# Altium footprint library 2019-03-18_22-03-14.PcbLib: 3 footprints
Each footprint in its own frame and in the unit in brackets; x right, y up, seen from the top. Pads: shape width x height; smd on the part's side, far side on the other; paste and mask are expansions set on the pad; w line width, h text height; cw(c..) or ccw(c..) is an arc to the next point about the centre after c.
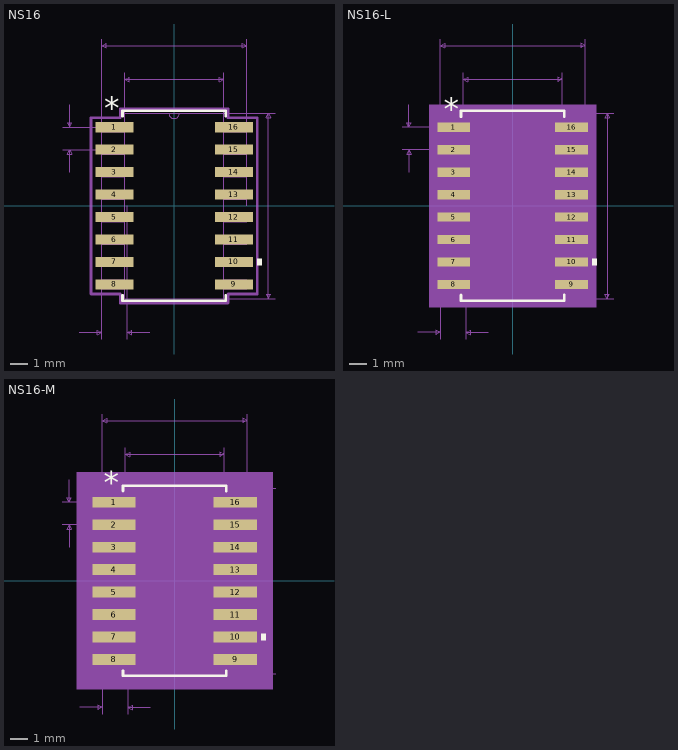
[diagram p0: the footprints below, top view; thin cyan lines are the x and y axes]

## NS16 [mil]
pads (16):
  rect 84.56x22.36 smd paste+0 mask+0: 1(-133,175) 2(-133,125) 3(-133,75) 4(-133,25) 5(-133,-25) 6(-133,-75) 7(-133,-125) 8(-133,-175) 9(133,-175) 10(133,-125) 11(133,-75) 12(133,-25) 13(133,25) 14(133,75) 15(133,125) 16(133,175)
Top Overlay:
  region: 185.28,-117.5 195.28,-117.5 195.28,-132.5 185.28,-132.5
  lines w6: -115,-199.28 -115,-211.5 115,-211.5 115,-199.28 ; -115,199.28 -115,211.5 115,211.5 115,199.28
  text "*" at -155.5,192.36 h50
Mechanical 7:
  lines w1: -248,125 -133,125 ; -248,175 -133,175 ; -233,75 -233,125 ; -233,225 -233,175 ; -211.5,-281.5 -161.5,-281.5 ; -161.5,-296.5 -161.5,0 -161.5,371.5 ; -110,0 -110,296.5 ; -104.5,-296.5 -104.5,0 ; -54.5,-281.5 -104.5,-281.5 ; 0,-206.5 225,-206.5 ; 0,206.5 225,206.5 ; 110,0 110,296.5 ; 161.5,0 161.5,371.5 ; -233,125 -228,115 -238,115 -233,125 ; -233,175 -228,185 -238,185 -233,175 ; -161.5,-281.5 -171.5,-286.5 -171.5,-276.5 -161.5,-281.5 ; -161.5,356.5 -151.5,351.5 -151.5,361.5 -161.5,356.5 ; -161.5,356.5 161.5,356.5 ; -110,281.5 -100,276.5 -100,286.5 -110,281.5 ; -110,281.5 110,281.5 ; -104.5,-281.5 -94.5,-286.5 -94.5,-276.5 -104.5,-281.5 ; 110,281.5 100,276.5 100,286.5 110,281.5 ; 161.5,356.5 151.5,351.5 151.5,361.5 161.5,356.5 ; 210,-206.5 215,-196.5 205,-196.5 210,-206.5 ; 210,-206.5 210,206.5 ; 210,206.5 215,196.5 205,196.5 210,206.5
  text "0.041in/1.041mm" at -226.75,-326.5 h25
  text "0.05in/1.27mm" at -415.5,137.5 h25
  text "0.413in/10.49mm" at 230,-12.5 h25
  text "0.323in/8.204mm" at -93.75,376.5 h25
  text "0.22in/5.588mm" at -87.5,301.5 h25
  text "Alt 2 Padstyle: b229_152h76" at -337.5,-706.5 h50
  text "Alt 1 Padstyle: b152_229h76" at -337.5,-646.5 h50
  text "Pin One Padstyle: r215_57" at -312.5,-466.5 h50
  text "Default Padstyle: r215_57" at -312.5,-406.5 h50
Mechanical 13:
  lines w0: -12,206.5 ccw(c0,206.5) 12,206.5
  lines w1: -161.5,-185 -110,-185 -110,-165 -161.5,-165 -161.5,-185 ; -161.5,-135 -110,-135 -110,-115 -161.5,-115 -161.5,-135 ; -161.5,-85 -110,-85 -110,-65 -161.5,-65 -161.5,-85 ; -161.5,-35 -110,-35 -110,-15 -161.5,-15 -161.5,-35 ; -161.5,15 -110,15 -110,35 -161.5,35 -161.5,15 ; -161.5,65 -110,65 -110,85 -161.5,85 -161.5,65 ; -161.5,115 -110,115 -110,135 -161.5,135 -161.5,115 ; -161.5,165 -110,165 -110,185 -161.5,185 -161.5,165 ; -110,-206.5 -110,206.5 110,206.5 110,-206.5 -110,-206.5 ; 110,-185 161.5,-185 161.5,-165 110,-165 110,-185 ; 110,-135 161.5,-135 161.5,-115 110,-115 110,-135 ; 110,-85 161.5,-85 161.5,-65 110,-65 110,-85 ; 110,-35 161.5,-35 161.5,-15 110,-15 110,-35 ; 110,15 161.5,15 161.5,35 110,35 110,15 ; 110,65 161.5,65 161.5,85 110,85 110,65 ; 110,115 161.5,115 161.5,135 110,135 110,115 ; 110,165 161.5,165 161.5,185 110,185 110,165
  text "*" at -107.5,153.5 h50
Mechanical 15:
  lines w6: -185.28,-196.18 -120,-196.18 -120,-216.5 120,-216.5 120,-196.18 185.28,-196.18 185.28,196.18 120,196.18 120,216.5 -120,216.5 -120,196.18 -185.28,196.18 -185.28,-196.18
3D body: height 10, standoff 0, extent 0,0 10,10

## NS16-L [mil]
pads (16):
  rect 72.75x20.79 smd paste+0 mask+0: 1(-131.03,175) 2(-131.03,125) 3(-131.03,75) 4(-131.03,25) 5(-131.03,-25) 6(-131.03,-75) 7(-131.03,-125) 8(-131.03,-175) 9(131.03,-175) 10(131.03,-125) 11(131.03,-75) 12(131.03,-25) 13(131.03,25) 14(131.03,75) 15(131.03,125) 16(131.03,175)
Top Overlay:
  region: 177.41,-117.5 187.41,-117.5 187.41,-132.5 177.41,-132.5
  lines w6: -115,-198.49 -115,-211.5 115,-211.5 115,-198.49 ; -115,198.49 -115,211.5 115,211.5 115,198.49
  text "*" at -153.53,190.79 h50
Mechanical 5:
  region: 186.41,-225.5 -186.41,-225.5 -186.41,225.5 186.41,225.5
Mechanical 7:
  lines w1: -246.03,125 -131.03,125 ; -246.03,175 -131.03,175 ; -231.03,75 -231.03,125 ; -231.03,225 -231.03,175 ; -211.5,-281.5 -161.5,-281.5 ; -161.5,-296.5 -161.5,0 -161.5,371.5 ; -110,0 -110,296.5 ; -104.5,-296.5 -104.5,0 ; -54.5,-281.5 -104.5,-281.5 ; 0,-206.5 225,-206.5 ; 0,206.5 225,206.5 ; 110,0 110,296.5 ; 161.5,0 161.5,371.5 ; -231.03,125 -236.03,115 -226.03,115 -231.03,125 ; -231.03,175 -236.03,185 -226.03,185 -231.03,175 ; -161.5,-281.5 -171.5,-276.5 -171.5,-286.5 -161.5,-281.5 ; -161.5,356.5 161.5,356.5 ; -161.5,356.5 -151.5,361.5 -151.5,351.5 -161.5,356.5 ; -110,281.5 110,281.5 ; -110,281.5 -100,286.5 -100,276.5 -110,281.5 ; -104.5,-281.5 -94.5,-276.5 -94.5,-286.5 -104.5,-281.5 ; 110,281.5 100,286.5 100,276.5 110,281.5 ; 161.5,356.5 151.5,361.5 151.5,351.5 161.5,356.5 ; 210,-206.5 210,206.5 ; 210,-206.5 205,-196.5 215,-196.5 210,-206.5 ; 210,206.5 205,196.5 215,196.5 210,206.5
  text "Default Padstyle: r185_53" at -312.5,-406.5 h50
  text "Pin One Padstyle: r185_53" at -312.5,-466.5 h50
  text "Alt 1 Padstyle: b152_229h76" at -337.5,-646.5 h50
  text "Alt 2 Padstyle: b229_152h76" at -337.5,-706.5 h50
  text "0.22in/5.588mm" at -87.5,301.5 h25
  text "0.323in/8.204mm" at -93.75,376.5 h25
  text "0.413in/10.49mm" at 230,-12.5 h25
  text "0.05in/1.27mm" at -413.53,137.5 h25
  text "0.041in/1.041mm" at -226.75,-326.5 h25
Mechanical 13:
  lines w0: -12,206.5 ccw(c0,206.5) 12,206.5
  lines w1: -161.5,-185 -161.5,-165 -110,-165 -110,-185 -161.5,-185 ; -161.5,-135 -161.5,-115 -110,-115 -110,-135 -161.5,-135 ; -161.5,-85 -161.5,-65 -110,-65 -110,-85 -161.5,-85 ; -161.5,-35 -161.5,-15 -110,-15 -110,-35 -161.5,-35 ; -161.5,15 -161.5,35 -110,35 -110,15 -161.5,15 ; -161.5,65 -161.5,85 -110,85 -110,65 -161.5,65 ; -161.5,115 -161.5,135 -110,135 -110,115 -161.5,115 ; -161.5,165 -161.5,185 -110,185 -110,165 -161.5,165 ; -110,-206.5 110,-206.5 110,206.5 -110,206.5 -110,-206.5 ; 110,-185 110,-165 161.5,-165 161.5,-185 110,-185 ; 110,-135 110,-115 161.5,-115 161.5,-135 110,-135 ; 110,-85 110,-65 161.5,-65 161.5,-85 110,-85 ; 110,-35 110,-15 161.5,-15 161.5,-35 110,-35 ; 110,15 110,35 161.5,35 161.5,15 110,15 ; 110,65 110,85 161.5,85 161.5,65 110,65 ; 110,115 110,135 161.5,135 161.5,115 110,115 ; 110,165 110,185 161.5,185 161.5,165 110,165
  text "*" at -107.5,153.5 h50
Mechanical 15:
  region: -114,-189.39 -171.41,-189.39 -171.41,189.39 -114,189.39 -114,210.5 114,210.5 114,189.39 171.41,189.39 171.41,-189.39 114,-189.39 114,-210.5 -114,-210.5
  lines w6: -171.41,-189.39 -171.41,189.39 -114,189.39 -114,210.5 114,210.5 114,189.39 171.41,189.39 171.41,-189.39 114,-189.39 114,-210.5 -114,-210.5 -114,-189.39 -171.41,-189.39
3D body: height 10, standoff 0, extent 0,0 10,10

## NS16-M [mil]
pads (16):
  rect 96.37x23.94 smd paste+0 mask+0: 1(-134.97,175) 2(-134.97,125) 3(-134.97,75) 4(-134.97,25) 5(-134.97,-25) 6(-134.97,-75) 7(-134.97,-125) 8(-134.97,-175) 9(134.97,-175) 10(134.97,-125) 11(134.97,-75) 12(134.97,-25) 13(134.97,25) 14(134.97,75) 15(134.97,125) 16(134.97,175)
Top Overlay:
  region: 193.15,-117.5 203.15,-117.5 203.15,-132.5 193.15,-132.5
  lines w6: -115,-200.07 -115,-211.5 115,-211.5 115,-200.07 ; -115,200.07 -115,211.5 115,211.5 115,200.07
  text "*" at -157.47,193.94 h50
Mechanical 5:
  region: 218.15,-241.5 -218.15,-241.5 -218.15,241.5 218.15,241.5
Mechanical 7:
  lines w1: -249.97,125 -134.97,125 ; -249.97,175 -134.97,175 ; -234.97,75 -234.97,125 ; -234.97,225 -234.97,175 ; -211.5,-281.5 -161.5,-281.5 ; -161.5,-296.5 -161.5,0 -161.5,371.5 ; -110,0 -110,296.5 ; -104.5,-296.5 -104.5,0 ; -54.5,-281.5 -104.5,-281.5 ; 0,-206.5 225,-206.5 ; 0,206.5 225,206.5 ; 110,0 110,296.5 ; 161.5,0 161.5,371.5 ; -234.97,125 -239.97,115 -229.97,115 -234.97,125 ; -234.97,175 -239.97,185 -229.97,185 -234.97,175 ; -161.5,-281.5 -171.5,-276.5 -171.5,-286.5 -161.5,-281.5 ; -161.5,356.5 161.5,356.5 ; -161.5,356.5 -151.5,361.5 -151.5,351.5 -161.5,356.5 ; -110,281.5 110,281.5 ; -110,281.5 -100,286.5 -100,276.5 -110,281.5 ; -104.5,-281.5 -94.5,-276.5 -94.5,-286.5 -104.5,-281.5 ; 110,281.5 100,286.5 100,276.5 110,281.5 ; 161.5,356.5 151.5,361.5 151.5,351.5 161.5,356.5 ; 210,-206.5 210,206.5 ; 210,-206.5 205,-196.5 215,-196.5 210,-206.5 ; 210,206.5 205,196.5 215,196.5 210,206.5
  text "Default Padstyle: r245_61" at -312.5,-406.5 h50
  text "Pin One Padstyle: r245_61" at -312.5,-466.5 h50
  text "Alt 1 Padstyle: b152_229h76" at -337.5,-646.5 h50
  text "Alt 2 Padstyle: b229_152h76" at -337.5,-706.5 h50
  text "0.22in/5.588mm" at -87.5,301.5 h25
  text "0.323in/8.204mm" at -93.75,376.5 h25
  text "0.413in/10.49mm" at 230,-12.5 h25
  text "0.05in/1.27mm" at -417.47,137.5 h25
  text "0.041in/1.041mm" at -226.75,-326.5 h25
Mechanical 13:
  lines w0: -12,206.5 ccw(c0,206.5) 12,206.5
  lines w1: -161.5,-185 -161.5,-165 -110,-165 -110,-185 -161.5,-185 ; -161.5,-135 -161.5,-115 -110,-115 -110,-135 -161.5,-135 ; -161.5,-85 -161.5,-65 -110,-65 -110,-85 -161.5,-85 ; -161.5,-35 -161.5,-15 -110,-15 -110,-35 -161.5,-35 ; -161.5,15 -161.5,35 -110,35 -110,15 -161.5,15 ; -161.5,65 -161.5,85 -110,85 -110,65 -161.5,65 ; -161.5,115 -161.5,135 -110,135 -110,115 -161.5,115 ; -161.5,165 -161.5,185 -110,185 -110,165 -161.5,165 ; -110,-206.5 110,-206.5 110,206.5 -110,206.5 -110,-206.5 ; 110,-185 110,-165 161.5,-165 161.5,-185 110,-185 ; 110,-135 110,-115 161.5,-115 161.5,-135 110,-135 ; 110,-85 110,-65 161.5,-65 161.5,-85 110,-85 ; 110,-35 110,-15 161.5,-15 161.5,-35 110,-35 ; 110,15 110,35 161.5,35 161.5,15 110,15 ; 110,65 110,85 161.5,85 161.5,65 110,65 ; 110,115 110,135 161.5,135 161.5,115 110,115 ; 110,165 110,185 161.5,185 161.5,165 110,165
  text "*" at -107.5,153.5 h50
Mechanical 15:
  region: -130,-206.97 -203.15,-206.97 -203.15,206.97 -130,206.97 -130,226.5 130,226.5 130,206.97 203.15,206.97 203.15,-206.97 130,-206.97 130,-226.5 -130,-226.5
  lines w6: -203.15,-206.97 -203.15,206.97 -130,206.97 -130,226.5 130,226.5 130,206.97 203.15,206.97 203.15,-206.97 130,-206.97 130,-226.5 -130,-226.5 -130,-206.97 -203.15,-206.97
3D body: height 10, standoff 0, extent 0,0 10,10